# Altium schematic symbol library GRM0335C1E360JA01D.SchLib: 1 symbol
Pins are listed as number, name and electrical type; pins without a type are passive.

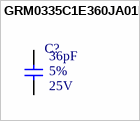
[diagram p0: symbol GRM0335C1E360JA01D]

## GRM0335C1E360JA01D
designator C?  Rated Voltage: 25V  Tolerance: 5%  Capacitence: 36pF  (hidden comment: GRM0335C1E360JA01D)
/ Multilayer Ceramic Capacitors MLCC - SMD/SMT 0201 36pF 25volts C0G +/-5%; MFR: Murata Electronics; PN: GRM0335C1E360JA01D; ComponentLink1Description: Datasheet; ComponentLink1URL: www.google.com; Temperature Coefficient: C0G; Package: 0201; Footprint: C0201; Supplier 1: Mouser; Supplier Part Number 1: 81-GRM0335C1E360JA1D
footprint C0201
pins: 1, 2